# EAGLE library part MCP4661 (library Potentiometer Digital)
Name des Bauteiles: -->MCP4661-103E/ST Daten:Digital Potentiometer , TSSOP14 , 10 kOhm Artikelnummer:#keine feste Artikelnummer vorhanden / Atikel nicht lagermäßig vorhanden! Datenblatt:www.alldatasheet.com __________________________________________ generated by Eagle Description Tool am : 02.04.2014 16:15:39 erstellt von: hm
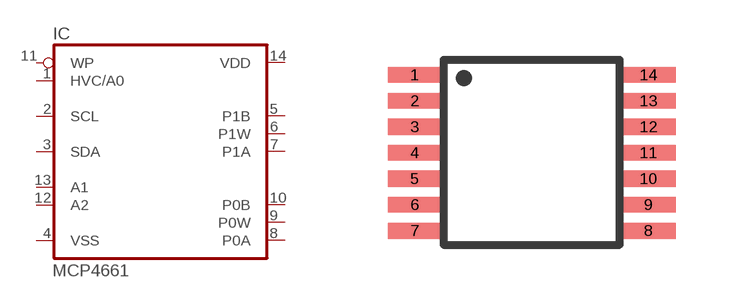
[diagram p0: symbol with the pads of TSSOP14; footprint TSSOP14]

Designator prefix IC

## MCP4661-103E/ST  [TSSOP14]
1  HVC/A0  in
2  SCL  in
3  SDA
4  VSS  pwr
5  P1B  pas
6  P1W  pas
7  P1A  pas
8  P0A  pas
9  P0W  pas
10  P0B  pas
11  WP  in
12  A2  in
13  A1  in
14  VDD  pwr

## Footprint TSSOP14 (pad centres in mm)
smd 1.35 x 0.4: 1 -2.925,1.925; 2 -2.925,1.275; 3 -2.925,0.625; 4 -2.925,-0.025; 5 -2.925,-0.675; 6 -2.925,-1.325; 7 -2.925,-1.975; 8 2.925,-1.975; 9 2.925,-1.325; 10 2.925,-0.675; 11 2.925,-0.025; 12 2.925,0.625; 13 2.925,1.275; 14 2.925,1.925